# EAGLE library part INA2181 (library misc)
Current Sense Amplifiers Dual 26V, Bidirectional, Low- or High-Side Voltage Output Current Sense Amplifier 10-VSSOP -40 to 125
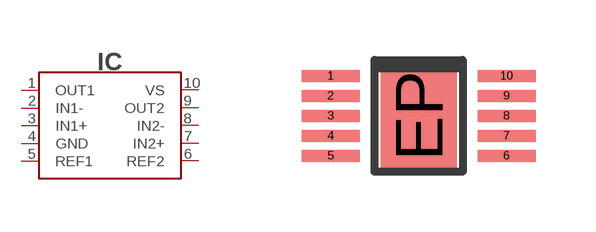
[diagram p11: symbol with the pads of MSOP10; footprint MSOP10]

Designator prefix IC

## INA2181 (MANF: Texas Instruments; MANF#: INA2181A1IDGSR)  [MSOP10]
1  OUT1
2  IN1-
3  IN1+
4  GND
5  REF1
6  REF2
7  IN2+
8  IN2-
9  OUT2
10  VS

## Footprint MSOP10 (pad centres in mm)
10-Lead Mini Small Outline Package [MSOP] (RM-10) Source: http://www.analog.com/UploadedFiles/Data_Sheets/35641221898805SSM2167_b.pdf COMPLIANT TO JEDEC STANDARDS MO-187BA
smd 1.45 x 0.3: 1 -2.2,1; 2 -2.2,0.5; 3 -2.2,0; 4 -2.2,-0.5; 5 -2.2,-1; 6 2.2,-1; 7 2.2,-0.5; 8 2.2,0; 9 2.2,0.5; 10 2.2,1
smd 1.9 x 2.6: EP 0,0